# Altium footprint library castellated_pads.PcbLib: 1 footprints
Each footprint in its own frame and in the unit in brackets; x right, y up, seen from the top. Pads: shape width x height; smd on the part's side, far side on the other; paste and mask are expansions set on the pad; w line width, h text height; cw(c..) or ccw(c..) is an arc to the next point about the centre after c.
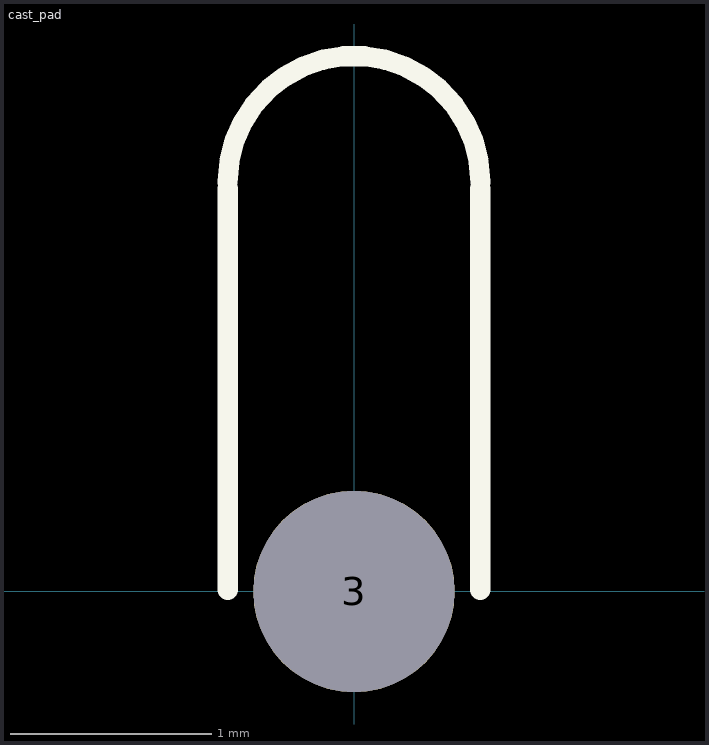
[diagram p0: the footprint, top view; thin cyan lines are the x and y axes]

## cast_pad [mm]
pads (1):
  round 1 hole 1: 3(0,0)
Top Overlay:
  lines w0.1: -0.627,0.008 -0.627,2 ; -0.627,2.032 cw(c0,2.032) 0.627,2.032 ; 0.627,0.008 0.627,2
Multi-Layer:
  region: -0.5,0.008 -0.5,2 -0.5,2.099 -0.424,2.283 -0.283,2.424 -0.099,2.5 0.099,2.5 0.283,2.424 0.424,2.283 0.5,2.099 0.5,2 0.5,0.008